# Altium integrated library ULN200x.IntLib: 1 symbol
Pins are listed as number, name and electrical type; pins without a type are passive.

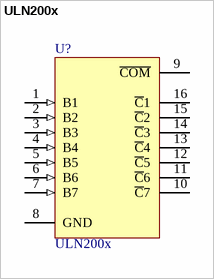
[diagram p0: symbol ULN200x]

## ULN200x
designator U?
Darlington Transistor Array
pins: 1 B1 (in), 2 B2 (in), 3 B3 (in), 4 B4 (in), 5 B5 (in), 6 B6 (in), 7 B7 (in), 8 GND (power), 9 ~{COM}, 10 ~{C}7 (oc), 11 ~{C}6 (oc), 12 ~{C}5 (oc), 13 ~{C}4 (oc), 14 ~{C}3 (oc), 15 ~{C}2 (oc), 16 ~{C}1 (oc)